# Altium schematic symbol library FrSky_Rx_Mini.SchLib: 1 symbol
Pins are listed as number, name and electrical type; pins without a type are passive.

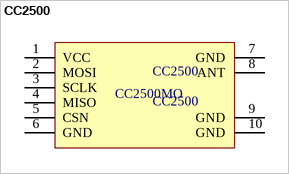
[diagram p0: symbol CC2500]

## CC2500
designator CC2500
pins: 1 VCC, 2 MOSI, 3 SCLK, 4 MISO, 5 CSN, 6 GND, 7 GND, 8 ANT, 9 GND, 10 GND
text: CC2500MO